# EAGLE library part MC1,5/6-GF-3,5 (library con-phoenix)
MC 1,5/6-GF-3,5 Base strip 1843800
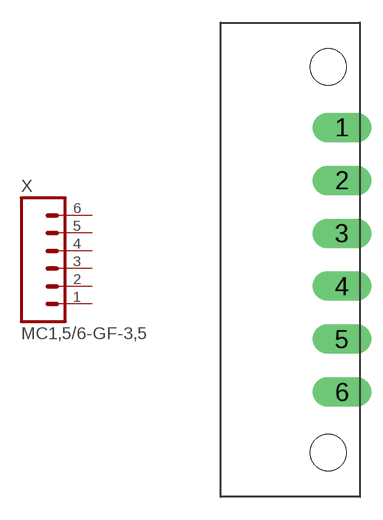
[diagram p0: symbol with the pads of MC1,5/6-GF-3,5; footprint MC1,5/6-GF-3,5]

Designator prefix X

## MC1,5/6-GF-3,5  [MC1,5/6-GF-3,5]
1  1  pas
2  2  pas
3  3  pas
4  4  pas
5  5  pas
6  6  pas

## Footprint MC1,5/6-GF-3,5 (pad centres in mm)
drill 1.3 long: 1 0,0; 2 0,-3.5; 3 0,-7; 4 0,-10.5; 5 0,-14; 6 0,-17.5
hole 2.4 at -0.9,4
hole 2.4 at -0.9,-21.5